# Altium integrated library TI_Logic_Flip-Flop,Latch,Register.IntLib: 2598 symbols (part 88 of 122)
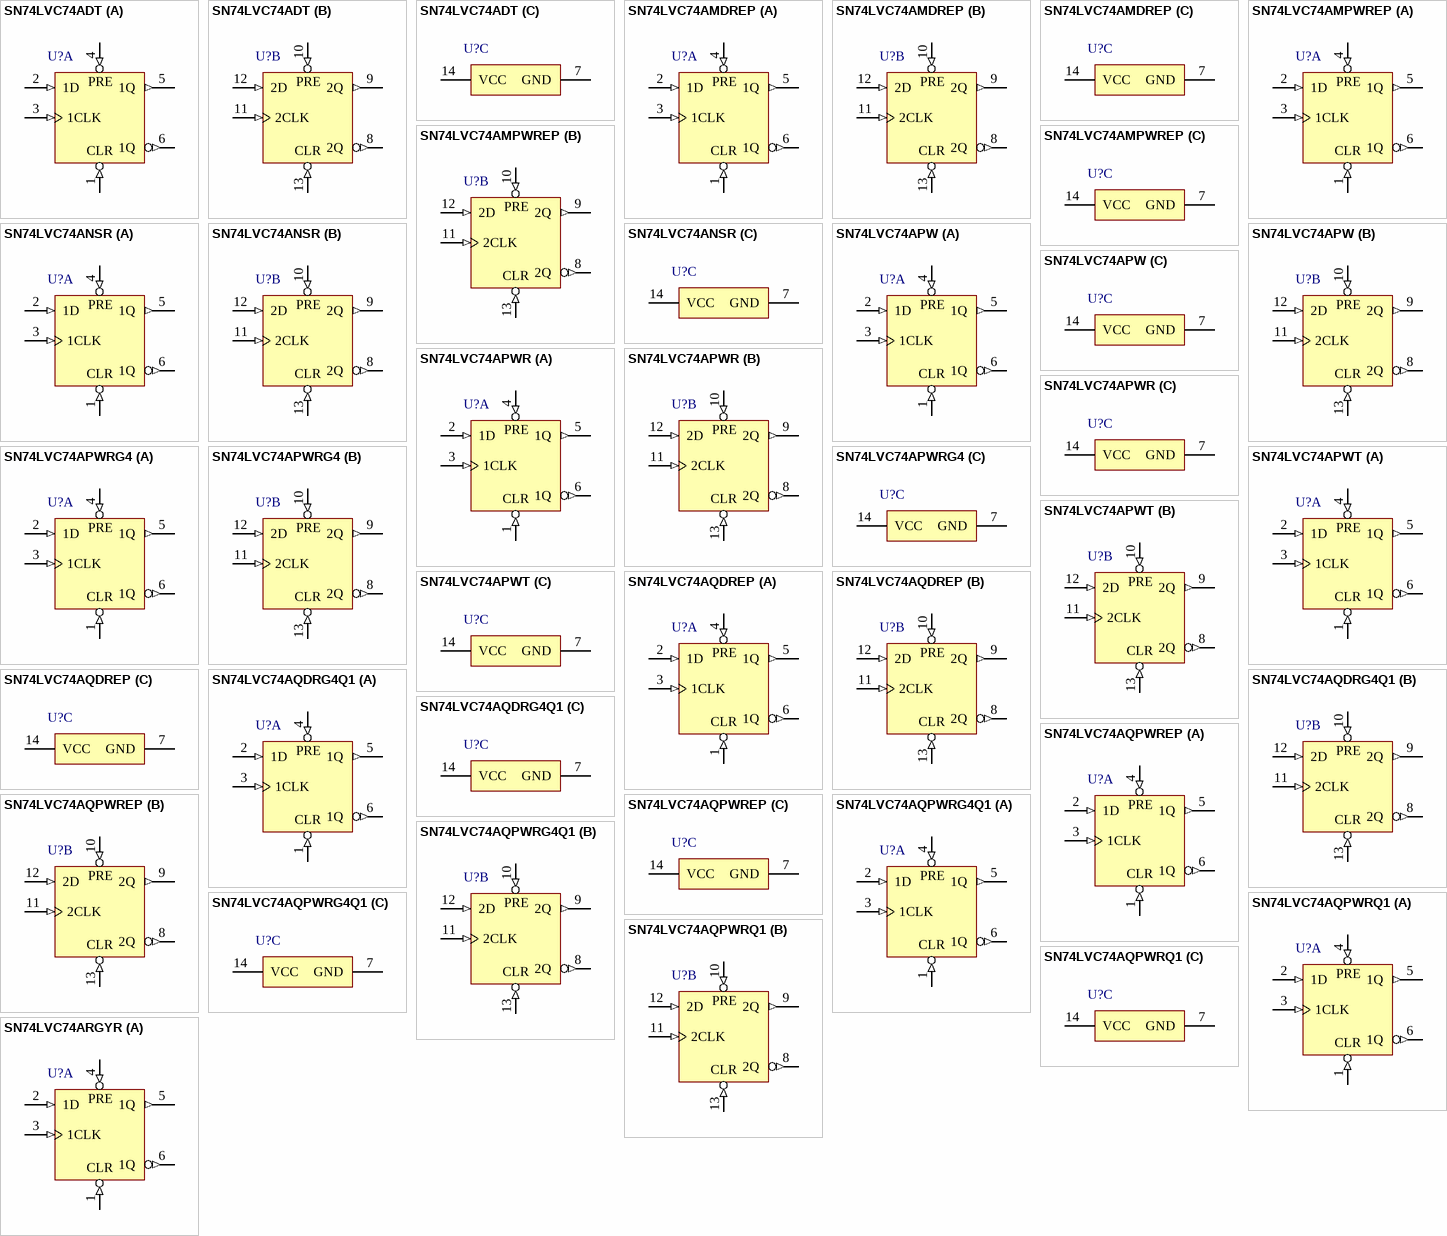
[diagram p226: symbols SN74LVC74ADT to SN74LVC74ARGYR]

## SN74LVC74AQDREP
designator U?
Enhanced Product Dual Positive-Edge-Triggered D-Type Flip-Flops With Clear And Preset, D0014A, LARGE T&R; Generic Part Number: SN74LVC74A-EP; Manufacturer: Texas Instruments; PartNumber: SN74LVC74AQDREP; VCC(Min)(V): 2; VCC(Max)(V): 3.6; Output Type: LVTTL; ICC @ Nom Voltage(Max)(mA): 0.01; Input Type: TTL,CMOS; F @ Nom Voltage(Max)(Mhz): 100; Rating: HiRel Enhanced Product; Technology Family: LVC; Voltage(Nom)(V): 2.7,3.3; Schmitt Trigger: No; Output Drive (IOL/IOH)(Max)(mA): 24/-24; tpd @ Nom Voltage(Max)(ns): 6,5.2; DatasheetVersion: SCAS751C; PackageReference: D0014A; Supplier 1: Digi-Key; Supplier Part Number 1: 296-22379-2-ND; Supplier 2: Digi-Key; Supplier Part Number 2: 296-22379-1-ND; Supplier 3: Digi-Key; Supplier Part Number 3: 296-22379-6-ND; Supplier 4: Newark; Supplier Part Number 4: 46M0704; Supplier 5: Mouser; Supplier Part Number 5: 595-SN74LVC74AQDREP; Bits(#): 2; Operating Temperature Range(C): -40 to 125,-55 to 125; Code_JEDEC: MS-012; ComponentLink1Description: Manufacturer URL; ComponentLink1URL: http://www.ti.com/; ComponentLink2Description: Datasheet; ComponentLink2URL: http://www.ti.com/lit/ds/symlink/sn74lvc74a-ep.pdf; ComponentLink3Description: Package Specification; ComponentLink3URL: http://www.ti.com/lit/ml/mpds177g/mpds177g.pdf
footprint D0014A_N (SOIC, 14-Leads, Body 8.75x4mm, Pitch 1.27mm, IPC Medium Density)
footprint D0014A_M (SOIC, 14-Leads, Body 8.75x4mm, Pitch 1.27mm, IPC Low Density)
footprint D0014A_L (SOIC, 14-Leads, Body 8.75x4mm, Pitch 1.27mm, IPC High Density)
part A pins: 1 1~{CLR} (in), 2 1D (in), 3 1CLK (in), 4 1~{PRE} (in), 5 1Q (out), 6 1Q (out)
part B pins: 8 2Q (out), 9 2Q (out), 10 2~{PRE} (in), 11 2CLK (in), 12 2D (in), 13 2~{CLR} (in)
part C pins: 7 GND (power), 14 VCC (power)
part A text: PRE; CLR
part B text: PRE; CLR

## SN74LVC74AQDRG4Q1
designator U?
Automotive Catalog Dual Positive-Edge-Triggered D-Type Flip-Flops With Clear And Preset, D0014A, LARGE T&R; Generic Part Number: SN74LVC74A-Q1; Manufacturer: Texas Instruments; PartNumber: SN74LVC74AQDRG4Q1; VCC(Min)(V): 2; VCC(Max)(V): 3.6; Output Type: LVTTL; ICC @ Nom Voltage(Max)(mA): 0.01; Input Type: TTL,CMOS; F @ Nom Voltage(Max)(Mhz): 100; Technology Family: LVC; Voltage(Nom)(V): 2.7,3.3; Schmitt Trigger: No; Output Drive (IOL/IOH)(Max)(mA): 24/-24; tpd @ Nom Voltage(Max)(ns): 6,5.2; DatasheetVersion: SCES481C; PackageReference: D0014A; Supplier 1: Digi-Key; Supplier Part Number 1: SN74LVC74AQDRG4Q1-ND; Supplier 2: Mouser; Supplier Part Number 2: 595-N74LVC74AQDRG4Q1; Bits(#): 2; Operating Temperature Range(C): -40 to 125; Rating: Automotive; 3-State Output: No; Code_JEDEC: MS-012; ComponentLink1Description: Manufacturer URL; ComponentLink1URL: http://www.ti.com/; ComponentLink2Description: Datasheet; ComponentLink2URL: http://www.ti.com/lit/ds/symlink/sn74lvc74a-q1.pdf; ComponentLink3Description: Package Specification; ComponentLink3URL: http://www.ti.com/lit/ml/mpds177g/mpds177g.pdf
footprint D0014A_N (SOIC, 14-Leads, Body 8.75x4mm, Pitch 1.27mm, IPC Medium Density)
footprint D0014A_M (SOIC, 14-Leads, Body 8.75x4mm, Pitch 1.27mm, IPC Low Density)
footprint D0014A_L (SOIC, 14-Leads, Body 8.75x4mm, Pitch 1.27mm, IPC High Density)
part A pins: 1 1~{CLR} (in), 2 1D (in), 3 1CLK (in), 4 1~{PRE} (in), 5 1Q (out), 6 1Q (out)
part B pins: 8 2Q (out), 9 2Q (out), 10 2~{PRE} (in), 11 2CLK (in), 12 2D (in), 13 2~{CLR} (in)
part C pins: 7 GND (power), 14 VCC (power)
part A text: PRE; CLR
part B text: PRE; CLR

## SN74LVC74AQPWREP
designator U?
Enhanced Product Dual Positive-Edge-Triggered D-Type Flip-Flops With Clear And Preset, PW0014A, LARGE T&R; Generic Part Number: SN74LVC74A-EP; Manufacturer: Texas Instruments; PartNumber: SN74LVC74AQPWREP; VCC(Min)(V): 2; VCC(Max)(V): 3.6; Output Type: LVTTL; ICC @ Nom Voltage(Max)(mA): 0.01; Input Type: TTL,CMOS; F @ Nom Voltage(Max)(Mhz): 100; Rating: HiRel Enhanced Product; Technology Family: LVC; Voltage(Nom)(V): 2.7,3.3; Schmitt Trigger: No; Output Drive (IOL/IOH)(Max)(mA): 24/-24; tpd @ Nom Voltage(Max)(ns): 6,5.2; DatasheetVersion: SCAS751C; PackageReference: PW0014A; Supplier 1: Digi-Key; Supplier Part Number 1: 296-22380-2-ND; Supplier 2: Digi-Key; Supplier Part Number 2: 296-22380-1-ND; Supplier 3: Digi-Key; Supplier Part Number 3: 296-22380-6-ND; Supplier 4: Mouser; Supplier Part Number 4: 595-SN74LVC74AQPWREP; Bits(#): 2; Operating Temperature Range(C): -40 to 125,-55 to 125; Code_JEDEC: MO-153; ComponentLink1Description: Manufacturer URL; ComponentLink1URL: http://www.ti.com/; ComponentLink2Description: Datasheet; ComponentLink2URL: http://www.ti.com/lit/ds/symlink/sn74lvc74a-ep.pdf; ComponentLink3Description: Package Specification; ComponentLink3URL: http://www.ti.com/lit/ml/mpds360/mpds360.pdf
footprint PW0014A_N (SOP, 14-Leads, Body 5.1x4.5mm, Pitch 0.65mm, IPC Medium Density)
footprint PW0014A_M (SOP, 14-Leads, Body 5.1x4.5mm, Pitch 0.65mm, IPC Low Density)
footprint PW0014A_L (SOP, 14-Leads, Body 5.1x4.5mm, Pitch 0.65mm, IPC High Density)
part A pins: 1 1~{CLR} (in), 2 1D (in), 3 1CLK (in), 4 1~{PRE} (in), 5 1Q (out), 6 1Q (out)
part B pins: 8 2Q (out), 9 2Q (out), 10 2~{PRE} (in), 11 2CLK (in), 12 2D (in), 13 2~{CLR} (in)
part C pins: 7 GND (power), 14 VCC (power)
part A text: PRE; CLR
part B text: PRE; CLR

## SN74LVC74AQPWRG4Q1
designator U?
Automotive Catalog Dual Positive-Edge-Triggered D-Type Flip-Flops With Clear And Preset, PW0014A, LARGE T&R; Generic Part Number: SN74LVC74A-Q1; Manufacturer: Texas Instruments; PartNumber: SN74LVC74AQPWRG4Q1; VCC(Min)(V): 2; VCC(Max)(V): 3.6; Output Type: LVTTL; ICC @ Nom Voltage(Max)(mA): 0.01; Input Type: TTL,CMOS; F @ Nom Voltage(Max)(Mhz): 100; Technology Family: LVC; Voltage(Nom)(V): 2.7,3.3; Schmitt Trigger: No; Output Drive (IOL/IOH)(Max)(mA): 24/-24; tpd @ Nom Voltage(Max)(ns): 6,5.2; DatasheetVersion: SCES481C; PackageReference: PW0014A; Supplier 1: Digi-Key; Supplier Part Number 1: 296-28971-2-ND; Supplier 2: Digi-Key; Supplier Part Number 2: 296-28971-1-ND; Supplier 3: Digi-Key; Supplier Part Number 3: 296-28971-6-ND; Supplier 4: Mouser; Supplier Part Number 4: 595-74LVC74AQPWRG4Q1; Bits(#): 2; Operating Temperature Range(C): -40 to 125; Rating: Automotive; 3-State Output: No; Code_JEDEC: MO-153; ComponentLink1Description: Manufacturer URL; ComponentLink1URL: http://www.ti.com/; ComponentLink2Description: Datasheet; ComponentLink2URL: http://www.ti.com/lit/ds/symlink/sn74lvc74a-q1.pdf; ComponentLink3Description: Package Specification; ComponentLink3URL: http://www.ti.com/lit/ml/mpds360/mpds360.pdf
footprint PW0014A_N (SOP, 14-Leads, Body 5.1x4.5mm, Pitch 0.65mm, IPC Medium Density)
footprint PW0014A_M (SOP, 14-Leads, Body 5.1x4.5mm, Pitch 0.65mm, IPC Low Density)
footprint PW0014A_L (SOP, 14-Leads, Body 5.1x4.5mm, Pitch 0.65mm, IPC High Density)
part A pins: 1 1~{CLR} (in), 2 1D (in), 3 1CLK (in), 4 1~{PRE} (in), 5 1Q (out), 6 1Q (out)
part B pins: 8 2Q (out), 9 2Q (out), 10 2~{PRE} (in), 11 2CLK (in), 12 2D (in), 13 2~{CLR} (in)
part C pins: 7 GND (power), 14 VCC (power)
part A text: PRE; CLR
part B text: PRE; CLR

## SN74LVC74AQPWRQ1
designator U?
Automotive Catalog Dual Positive-Edge-Triggered D-Type Flip-Flops With Clear And Preset, PW0014A, LARGE T&R; Generic Part Number: SN74LVC74A-Q1; Manufacturer: Texas Instruments; PartNumber: SN74LVC74AQPWRQ1; VCC(Min)(V): 2; VCC(Max)(V): 3.6; Output Type: LVTTL; ICC @ Nom Voltage(Max)(mA): 0.01; Input Type: TTL,CMOS; F @ Nom Voltage(Max)(Mhz): 100; Technology Family: LVC; Voltage(Nom)(V): 2.7,3.3; Schmitt Trigger: No; Output Drive (IOL/IOH)(Max)(mA): 24/-24; tpd @ Nom Voltage(Max)(ns): 6,5.2; DatasheetVersion: SCES481C; PackageReference: PW0014A; Supplier 1: Digi-Key; Supplier Part Number 1: 296-17492-2-ND; Supplier 2: Digi-Key; Supplier Part Number 2: 296-17492-1-ND; Supplier 3: Digi-Key; Supplier Part Number 3: 296-17492-6-ND; Supplier 4: Mouser; Supplier Part Number 4: 595-SN74LVC74AQPWRQ1; Bits(#): 2; Operating Temperature Range(C): -40 to 125; Rating: Automotive; 3-State Output: No; Code_JEDEC: MO-153; ComponentLink1Description: Manufacturer URL; ComponentLink1URL: http://www.ti.com/; ComponentLink2Description: Datasheet; ComponentLink2URL: http://www.ti.com/lit/ds/symlink/sn74lvc74a-q1.pdf; ComponentLink3Description: Package Specification; ComponentLink3URL: http://www.ti.com/lit/ml/mpds360/mpds360.pdf
footprint PW0014A_N (SOP, 14-Leads, Body 5.1x4.5mm, Pitch 0.65mm, IPC Medium Density)
footprint PW0014A_M (SOP, 14-Leads, Body 5.1x4.5mm, Pitch 0.65mm, IPC Low Density)
footprint PW0014A_L (SOP, 14-Leads, Body 5.1x4.5mm, Pitch 0.65mm, IPC High Density)
part A pins: 1 1~{CLR} (in), 2 1D (in), 3 1CLK (in), 4 1~{PRE} (in), 5 1Q (out), 6 1Q (out)
part B pins: 8 2Q (out), 9 2Q (out), 10 2~{PRE} (in), 11 2CLK (in), 12 2D (in), 13 2~{CLR} (in)
part C pins: 7 GND (power), 14 VCC (power)
part A text: PRE; CLR
part B text: PRE; CLR

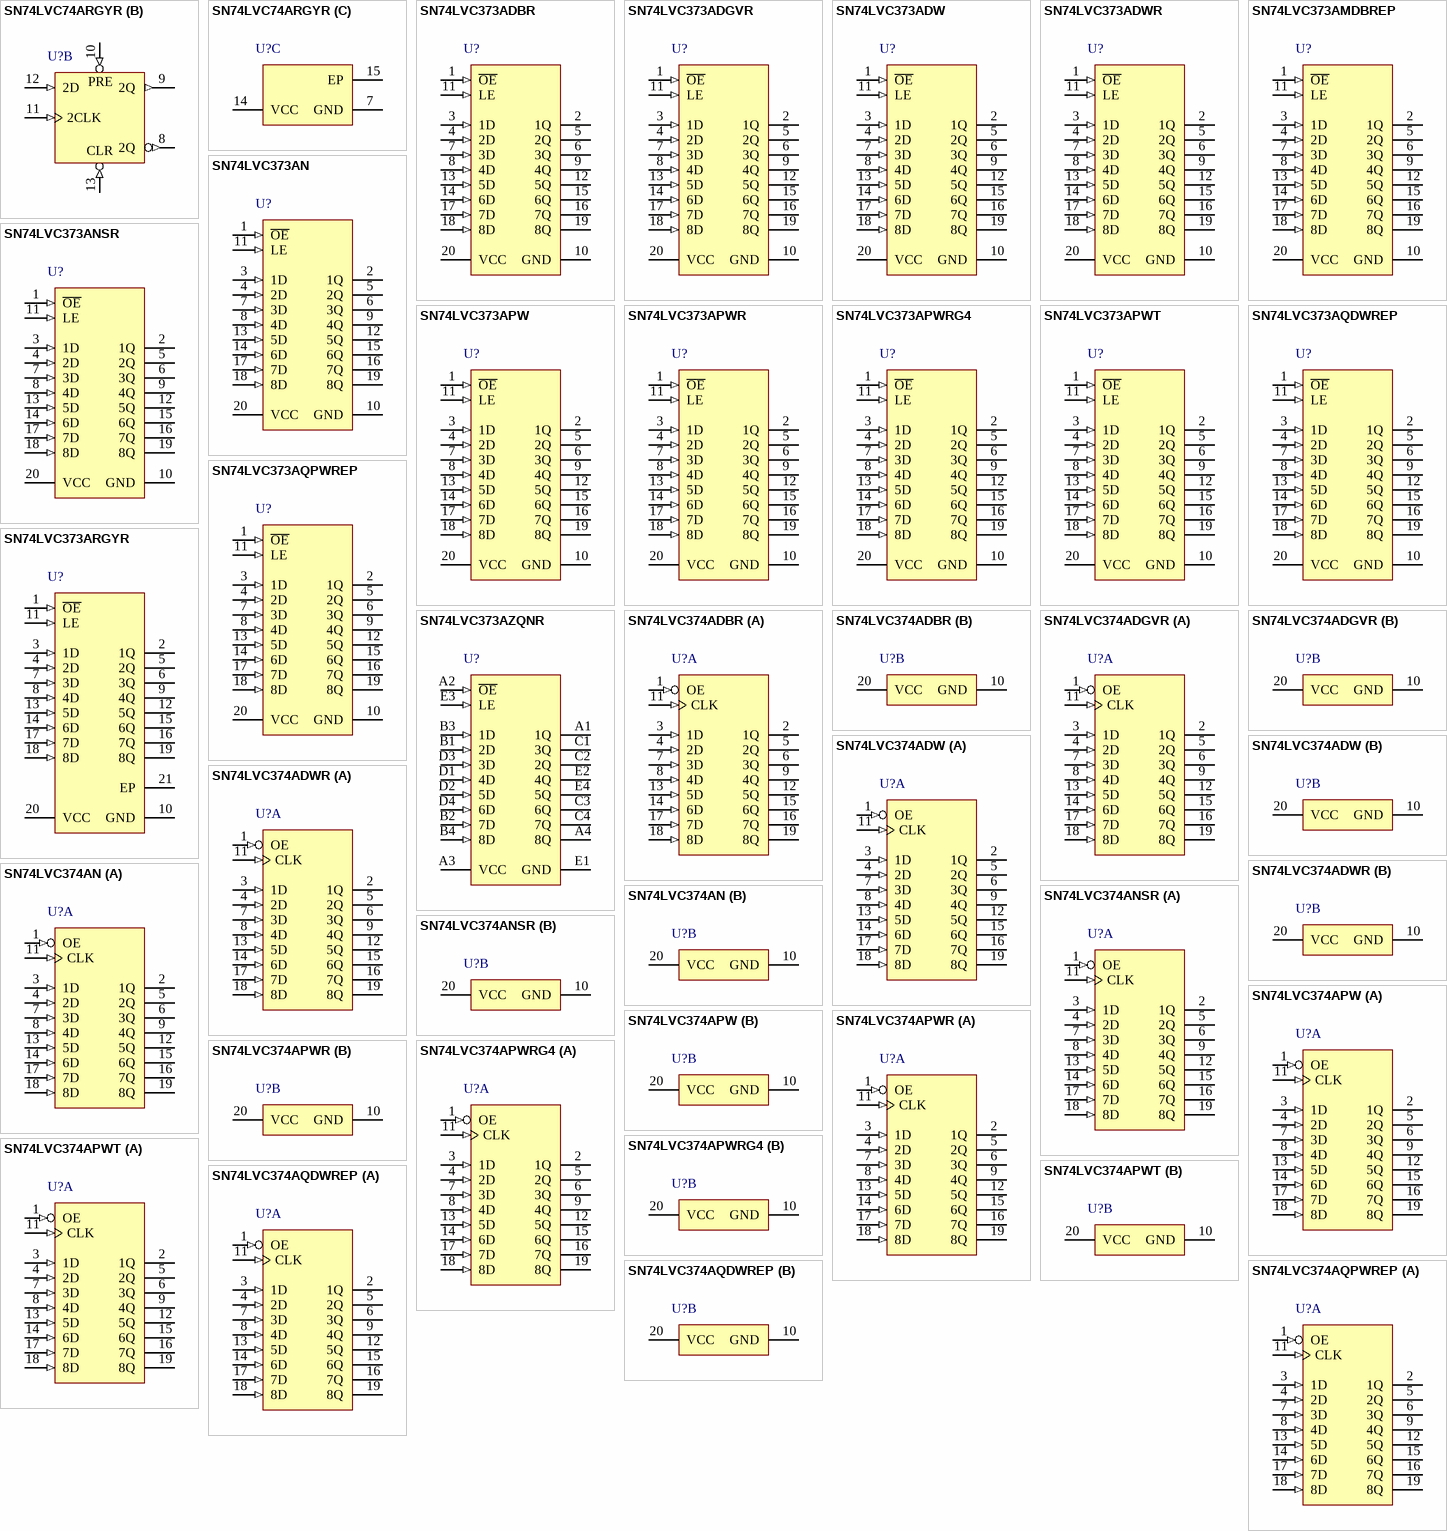
[diagram p104: symbols SN74LVC74ARGYR to SN74LVC374AQPWREP]

## SN74LVC74ARGYR
designator U?
Dual Positive-Edge-Triggered D-Type Flip-Flops With Clear And Preset, RGY0014A, LARGE T&R; Generic Part Number: SN74LVC74A; Manufacturer: Texas Instruments; PartNumber: SN74LVC74ARGYR; VCC(Min)(V): 1.65; VCC(Max)(V): 3.6; Output Type: CMOS; ICC @ Nom Voltage(Max)(mA): 0.01; Bits(#): 2; F @ Nom Voltage(Max)(Mhz): 100; Rating: Catalog; Technology Family: LVC; Voltage(Nom)(V): 1.8,2.5,2.7,3.3; Schmitt Trigger: No; Output Drive (IOL/IOH)(Max)(mA): 24/-24; Output Logic: Inverted,Non-inverted; tpd @ Nom Voltage(Max)(ns): 7.1,4.4,6,5.2; DatasheetVersion: SCAS287T; PackageReference: RGY0014A; Supplier 1: Digi-Key; Supplier Part Number 1: 296-13977-2-ND; Supplier 2: Digi-Key; Supplier Part Number 2: 296-13977-1-ND; Supplier 3: Digi-Key; Supplier Part Number 3: 296-13977-6-ND; Supplier 4: Newark; Supplier Part Number 4: 02E7038; Supplier 5: Mouser; Supplier Part Number 5: 595-SN74LVC74ARGYR; Input Type: CMOS; Operating Temperature Range(C): -40 to 125; 3-State Output: No; Code_JEDEC: MO-241; ComponentLink1Description: Manufacturer URL; ComponentLink1URL: http://www.ti.com/; ComponentLink2Description: Datasheet; ComponentLink2URL: http://www.ti.com/lit/ds/symlink/sn74lvc74a.pdf; ComponentLink3Description: Package Specification; ComponentLink3URL: http://www.ti.com/lit/ml/mpqf114g/mpqf114g.pdf
footprint RGY0014A_V (QFN, 14-Leads, Body 3.5x3.5mm, Thermal Pad 2.05x2.05mm, TI Recommend)
part A pins: 1 1~{CLR} (in), 2 1D (in), 3 1CLK (in), 4 1~{PRE} (in), 5 1Q (out), 6 1Q (out)
part B pins: 8 2Q (out), 9 2Q (out), 10 2~{PRE} (in), 11 2CLK (in), 12 2D (in), 13 2~{CLR} (in)
part C pins: 7 GND (power), 14 VCC (power) "Supply voltage input", 15 EP
part A text: PRE; CLR
part B text: PRE; CLR

## SN74LVC373ADBR
designator U?
Octal Transparent D-Type Latch With 3-State Outputs, DB0020A, LARGE T&R; Generic Part Number: SN74LVC373A; Manufacturer: Texas Instruments; PartNumber: SN74LVC373ADBR; VCC(Min)(V): 2; VCC(Max)(V): 3.6; Output Type: CMOS; Logic: True; Static Current: 0.01; Input Type: CMOS,TTL; Bits(#): 8; F @ Nom Voltage(Max)(Mhz): 100; Rating: Catalog; Technology Family: LVC; Voltage(Nom)(V): 1.8,2.5,2.7,3.3; Schmitt Trigger: No; Output Drive (IOL/IOH)(Max)(mA): 24/-24; Output Logic: Non-inverted; 3-State Output: Yes; tpd @ Nom Voltage(Max)(ns): 19.1,9.6,7.8,6.8; DatasheetVersion: SCAS295T; PackageReference: DB0020A; Supplier 1: Digi-Key; Supplier Part Number 1: 296-1237-2-ND; Supplier 2: Digi-Key; Supplier Part Number 2: 296-1237-1-ND; Supplier 3: Digi-Key; Supplier Part Number 3: 296-1237-6-ND; Supplier 4: Mouser; Supplier Part Number 4: 595-SN74LVC373ADBR; ICC @ Nom Voltage(Max)(mA): 0.01; Operating Temperature Range(C): -40 to 85; Code_JEDEC: MO-150; ComponentLink1Description: Manufacturer URL; ComponentLink1URL: http://www.ti.com/; ComponentLink2Description: Datasheet; ComponentLink2URL: http://www.ti.com/lit/ds/symlink/sn74lvc373a.pdf; ComponentLink3Description: Package Specification; ComponentLink3URL: http://www.ti.com/lit/ml/mpds508/mpds508.pdf
footprint DB0020A_N (SOP, 20-Leads, Body 5.6x7.5mm, Pitch 0.65mm, IPC Medium Density)
footprint DB0020A_M (SOP, 20-Leads, Body 5.6x7.5mm, Pitch 0.65mm, IPC Low Density)
footprint DB0020A_L (SOP, 20-Leads, Body 5.6x7.5mm, Pitch 0.65mm, IPC High Density)
pins: 1 ~{OE} (in) "Output Enable", 2 1Q (hiz) "1Q Output", 3 1D (in) "1D Input", 4 2D (in) "2D Input", 5 2Q (hiz) "2Q Output", 6 3Q (hiz) "3Q Output", 7 3D (in) "3D Input", 8 4D (in) "4D Input", 9 4Q (hiz) "4Q Output", 10 GND (power) "Ground Pin", 11 LE (in) "Latch Enable", 12 5Q (hiz) "5Q Output", 13 5D (in) "5D Input", 14 6D (in) "6D Input", 15 6Q (hiz) "6Q Output", 16 7Q (hiz) "7Q Output", 17 7D (in) "7D Input", 18 8D (in) "8D Input", 19 8Q (hiz) "8Q Output", 20 VCC (power) "Power Pin"

## SN74LVC373ADGVR
designator U?
Octal Transparent D-Type Latch With 3-State Outputs, DGV0020A, LARGE T&R; Generic Part Number: SN74LVC373A; Manufacturer: Texas Instruments; PartNumber: SN74LVC373ADGVR; VCC(Min)(V): 2; VCC(Max)(V): 3.6; Output Type: CMOS; Logic: True; Static Current: 0.01; Input Type: CMOS,TTL; Bits(#): 8; F @ Nom Voltage(Max)(Mhz): 100; Rating: Catalog; Technology Family: LVC; Voltage(Nom)(V): 1.8,2.5,2.7,3.3; Schmitt Trigger: No; Output Drive (IOL/IOH)(Max)(mA): 24/-24; Output Logic: Non-inverted; 3-State Output: Yes; tpd @ Nom Voltage(Max)(ns): 19.1,9.6,7.8,6.8; DatasheetVersion: SCAS295T; PackageReference: DGV0020A; Supplier 1: Digi-Key; Supplier Part Number 1: 296-8510-2-ND; Supplier 2: Digi-Key; Supplier Part Number 2: 296-8510-1-ND; Supplier 3: Digi-Key; Supplier Part Number 3: 296-8510-6-ND; Supplier 4: Newark; Supplier Part Number 4: 76C4276; Supplier 5: Mouser; Supplier Part Number 5: 595-SN74LVC373ADGVR; ICC @ Nom Voltage(Max)(mA): 0.01; Operating Temperature Range(C): -40 to 85; Code_JEDEC: MO-194; ComponentLink1Description: Manufacturer URL; ComponentLink1URL: http://www.ti.com/; ComponentLink2Description: Datasheet; ComponentLink2URL: http://www.ti.com/lit/ds/symlink/sn74lvc373a.pdf; ComponentLink3Description: Package Specification; ComponentLink3URL: http://www.ti.com/lit/ml/mpds006c/mpds006c.pdf
footprint DGV0020A_N (SOP, 20-Leads, Body 4.5x5.1mm, Pitch 0.4mm, IPC Medium Density)
footprint DGV0020A_M (SOP, 20-Leads, Body 4.5x5.1mm, Pitch 0.4mm, IPC Low Density)
footprint DGV0020A_L (SOP, 20-Leads, Body 4.5x5.1mm, Pitch 0.4mm, IPC High Density)
pins: 1 ~{OE} (in) "Output Enable", 2 1Q (hiz) "1Q Output", 3 1D (in) "1D Input", 4 2D (in) "2D Input", 5 2Q (hiz) "2Q Output", 6 3Q (hiz) "3Q Output", 7 3D (in) "3D Input", 8 4D (in) "4D Input", 9 4Q (hiz) "4Q Output", 10 GND (power) "Ground Pin", 11 LE (in) "Latch Enable", 12 5Q (hiz) "5Q Output", 13 5D (in) "5D Input", 14 6D (in) "6D Input", 15 6Q (hiz) "6Q Output", 16 7Q (hiz) "7Q Output", 17 7D (in) "7D Input", 18 8D (in) "8D Input", 19 8Q (hiz) "8Q Output", 20 VCC (power) "Power Pin"

## SN74LVC373ADW
designator U?
Octal Transparent D-Type Latch With 3-State Outputs, DW0020A, TUBE; Generic Part Number: SN74LVC373A; Manufacturer: Texas Instruments; PartNumber: SN74LVC373ADW; VCC(Min)(V): 2; VCC(Max)(V): 3.6; Output Type: CMOS; Logic: True; Static Current: 0.01; Input Type: CMOS,TTL; Bits(#): 8; F @ Nom Voltage(Max)(Mhz): 100; Rating: Catalog; Technology Family: LVC; Voltage(Nom)(V): 1.8,2.5,2.7,3.3; Schmitt Trigger: No; Output Drive (IOL/IOH)(Max)(mA): 24/-24; Output Logic: Non-inverted; 3-State Output: Yes; tpd @ Nom Voltage(Max)(ns): 19.1,9.6,7.8,6.8; DatasheetVersion: SCAS295T; PackageReference: DW0020A; Supplier 1: Digi-Key; Supplier Part Number 1: 296-8511-5-ND; Supplier 2: Farnell; Supplier Part Number 2: 1105932; Supplier 3: Newark; Supplier Part Number 3: 24M7599; Supplier 4: Mouser; Supplier Part Number 4: 595-SN74LVC373ADW; ICC @ Nom Voltage(Max)(mA): 0.01; Operating Temperature Range(C): -40 to 85; Code_JEDEC: MS-013; ComponentLink1Description: Manufacturer URL; ComponentLink1URL: http://www.ti.com/; ComponentLink2Description: Datasheet; ComponentLink2URL: http://www.ti.com/lit/ds/symlink/sn74lvc373a.pdf; ComponentLink3Description: Package Specification; ComponentLink3URL: http://www.ti.com/lit/ml/mpds173a/mpds173a.pdf
footprint DW0020A_N (SOIC, 20-Leads, Body 13x7.6mm, Pitch 1.27mm, IPC Medium Density)
footprint DW0020A_M (SOIC, 20-Leads, Body 13x7.6mm, Pitch 1.27mm, IPC Low Density)
footprint DW0020A_L (SOIC, 20-Leads, Body 13x7.6mm, Pitch 1.27mm, IPC High Density)
pins: 1 ~{OE} (in) "Output Enable", 2 1Q (hiz) "1Q Output", 3 1D (in) "1D Input", 4 2D (in) "2D Input", 5 2Q (hiz) "2Q Output", 6 3Q (hiz) "3Q Output", 7 3D (in) "3D Input", 8 4D (in) "4D Input", 9 4Q (hiz) "4Q Output", 10 GND (power) "Ground Pin", 11 LE (in) "Latch Enable", 12 5Q (hiz) "5Q Output", 13 5D (in) "5D Input", 14 6D (in) "6D Input", 15 6Q (hiz) "6Q Output", 16 7Q (hiz) "7Q Output", 17 7D (in) "7D Input", 18 8D (in) "8D Input", 19 8Q (hiz) "8Q Output", 20 VCC (power) "Power Pin"

## SN74LVC373ADWR
designator U?
Octal Transparent D-Type Latch With 3-State Outputs, DW0020A, LARGE T&R; Generic Part Number: SN74LVC373A; Manufacturer: Texas Instruments; PartNumber: SN74LVC373ADWR; VCC(Min)(V): 2; VCC(Max)(V): 3.6; Output Type: CMOS; Logic: True; Static Current: 0.01; Input Type: CMOS,TTL; Bits(#): 8; F @ Nom Voltage(Max)(Mhz): 100; Rating: Catalog; Technology Family: LVC; Voltage(Nom)(V): 1.8,2.5,2.7,3.3; Schmitt Trigger: No; Output Drive (IOL/IOH)(Max)(mA): 24/-24; Output Logic: Non-inverted; 3-State Output: Yes; tpd @ Nom Voltage(Max)(ns): 19.1,9.6,7.8,6.8; DatasheetVersion: SCAS295T; PackageReference: DW0020A; Supplier 1: Digi-Key; Supplier Part Number 1: 296-8511-2-ND; Supplier 2: Digi-Key; Supplier Part Number 2: 296-8511-1-ND; Supplier 3: Digi-Key; Supplier Part Number 3: 296-8511-6-ND; Supplier 4: Newark; Supplier Part Number 4: 76C4277; Supplier 5: Mouser; Supplier Part Number 5: 595-SN74LVC373ADWR; ICC @ Nom Voltage(Max)(mA): 0.01; Operating Temperature Range(C): -40 to 85; Code_JEDEC: MS-013; ComponentLink1Description: Manufacturer URL; ComponentLink1URL: http://www.ti.com/; ComponentLink2Description: Datasheet; ComponentLink2URL: http://www.ti.com/lit/ds/symlink/sn74lvc373a.pdf; ComponentLink3Description: Package Specification; ComponentLink3URL: http://www.ti.com/lit/ml/mpds173a/mpds173a.pdf
footprint DW0020A_N (SOIC, 20-Leads, Body 13x7.6mm, Pitch 1.27mm, IPC Medium Density)
footprint DW0020A_M (SOIC, 20-Leads, Body 13x7.6mm, Pitch 1.27mm, IPC Low Density)
footprint DW0020A_L (SOIC, 20-Leads, Body 13x7.6mm, Pitch 1.27mm, IPC High Density)
pins: 1 ~{OE} (in) "Output Enable", 2 1Q (hiz) "1Q Output", 3 1D (in) "1D Input", 4 2D (in) "2D Input", 5 2Q (hiz) "2Q Output", 6 3Q (hiz) "3Q Output", 7 3D (in) "3D Input", 8 4D (in) "4D Input", 9 4Q (hiz) "4Q Output", 10 GND (power) "Ground Pin", 11 LE (in) "Latch Enable", 12 5Q (hiz) "5Q Output", 13 5D (in) "5D Input", 14 6D (in) "6D Input", 15 6Q (hiz) "6Q Output", 16 7Q (hiz) "7Q Output", 17 7D (in) "7D Input", 18 8D (in) "8D Input", 19 8Q (hiz) "8Q Output", 20 VCC (power) "Power Pin"

## SN74LVC373AMDBREP
designator U?
Enhanced Product Octal Transparent D-Type Latch With 3-State Outputs, DB0020A, LARGE T&R; Generic Part Number: SN74LVC373A-EP; Manufacturer: Texas Instruments; PartNumber: SN74LVC373AMDBREP; VCC(Min)(V): 2; VCC(Max)(V): 3.6; Output Type: CMOS; Logic: True; Static Current: 0.01; Input Type: CMOS,TTL; Bits(#): 8; F @ Nom Voltage(Max)(Mhz): 100; Rating: HiRel Enhanced Product; Technology Family: LVC; Voltage(Nom)(V): 2.7,3.3; Schmitt Trigger: No; Output Drive (IOL/IOH)(Max)(mA): 24/-24; Output Logic: Non-inverted; 3-State Output: Yes; tpd @ Nom Voltage(Max)(ns): 8.5,7.5; DatasheetVersion: SCAS737C; PackageReference: DB0020A; Supplier 1: Digi-Key; Supplier Part Number 1: 296-22364-2-ND; Supplier 2: Digi-Key; Supplier Part Number 2: 296-22364-1-ND; Supplier 3: Digi-Key; Supplier Part Number 3: 296-22364-6-ND; Supplier 4: Mouser; Supplier Part Number 4: 595-N74LVC373AMDBREP; ICC @ Nom Voltage(Max)(mA): 0.01; Operating Temperature Range(C): -40 to 125,-55 to 125; Code_JEDEC: MO-150; ComponentLink1Description: Manufacturer URL; ComponentLink1URL: http://www.ti.com/; ComponentLink2Description: Datasheet; ComponentLink2URL: http://www.ti.com/lit/ds/symlink/sn74lvc373a-ep.pdf; ComponentLink3Description: Package Specification; ComponentLink3URL: http://www.ti.com/lit/ml/mpds508/mpds508.pdf
footprint DB0020A_N (SOP, 20-Leads, Body 5.6x7.5mm, Pitch 0.65mm, IPC Medium Density)
footprint DB0020A_M (SOP, 20-Leads, Body 5.6x7.5mm, Pitch 0.65mm, IPC Low Density)
footprint DB0020A_L (SOP, 20-Leads, Body 5.6x7.5mm, Pitch 0.65mm, IPC High Density)
pins: 1 ~{OE} (in) "Output Enable", 2 1Q (hiz) "1Q Output", 3 1D (in) "1D Input", 4 2D (in) "2D Input", 5 2Q (hiz) "2Q Output", 6 3Q (hiz) "3Q Output", 7 3D (in) "3D Input", 8 4D (in) "4D Input", 9 4Q (hiz) "4Q Output", 10 GND (power) "Ground Pin", 11 LE (in) "Latch Enable", 12 5Q (hiz) "5Q Output", 13 5D (in) "5D Input", 14 6D (in) "6D Input", 15 6Q (hiz) "6Q Output", 16 7Q (hiz) "7Q Output", 17 7D (in) "7D Input", 18 8D (in) "8D Input", 19 8Q (hiz) "8Q Output", 20 VCC (power) "Power Pin"

## SN74LVC373AN
designator U?
Octal Transparent D-Type Latch With 3-State Outputs, N0020A, TUBE; Generic Part Number: SN74LVC373A; Manufacturer: Texas Instruments; PartNumber: SN74LVC373AN; VCC(Min)(V): 2; VCC(Max)(V): 3.6; Output Type: CMOS; Logic: True; Static Current: 0.01; Input Type: CMOS,TTL; Bits(#): 8; F @ Nom Voltage(Max)(Mhz): 100; Rating: Catalog; Technology Family: LVC; Voltage(Nom)(V): 1.8,2.5,2.7,3.3; Schmitt Trigger: No; Output Drive (IOL/IOH)(Max)(mA): 24/-24; Output Logic: Non-inverted; 3-State Output: Yes; tpd @ Nom Voltage(Max)(ns): 19.1,9.6,7.8,6.8; DatasheetVersion: SCAS295T; PackageReference: N0020A; Supplier 1: Digi-Key; Supplier Part Number 1: 296-12905-5-ND; Supplier 2: Mouser; Supplier Part Number 2: 595-SN74LVC373AN; ICC @ Nom Voltage(Max)(mA): 0.01; Operating Temperature Range(C): -40 to 85; Code_JEDEC: MS-001; ComponentLink1Description: Manufacturer URL; ComponentLink1URL: http://www.ti.com/; ComponentLink2Description: Datasheet; ComponentLink2URL: http://www.ti.com/lit/ds/symlink/sn74lvc373a.pdf; ComponentLink3Description: Package Specification; ComponentLink3URL: http://www.ti.com/lit/ml/mpdi002c/mpdi002c.pdf
footprint N0020A (DIP, 20-Leads, Body 26.9x6.6mm, Pitch 2.54mm)
pins: 1 ~{OE} (in) "Output Enable", 2 1Q (hiz) "1Q Output", 3 1D (in) "1D Input", 4 2D (in) "2D Input", 5 2Q (hiz) "2Q Output", 6 3Q (hiz) "3Q Output", 7 3D (in) "3D Input", 8 4D (in) "4D Input", 9 4Q (hiz) "4Q Output", 10 GND (power) "Ground Pin", 11 LE (in) "Latch Enable", 12 5Q (hiz) "5Q Output", 13 5D (in) "5D Input", 14 6D (in) "6D Input", 15 6Q (hiz) "6Q Output", 16 7Q (hiz) "7Q Output", 17 7D (in) "7D Input", 18 8D (in) "8D Input", 19 8Q (hiz) "8Q Output", 20 VCC (power) "Power Pin"

## SN74LVC373ANSR
designator U?
Octal Transparent D-Type Latch With 3-State Outputs, NS0020A, LARGE T&R; Generic Part Number: SN74LVC373A; Manufacturer: Texas Instruments; PartNumber: SN74LVC373ANSR; VCC(Min)(V): 2; VCC(Max)(V): 3.6; Output Type: CMOS; Logic: True; Static Current: 0.01; Input Type: CMOS,TTL; Bits(#): 8; F @ Nom Voltage(Max)(Mhz): 100; Rating: Catalog; Technology Family: LVC; Voltage(Nom)(V): 1.8,2.5,2.7,3.3; Schmitt Trigger: No; Output Drive (IOL/IOH)(Max)(mA): 24/-24; Output Logic: Non-inverted; 3-State Output: Yes; tpd @ Nom Voltage(Max)(ns): 19.1,9.6,7.8,6.8; DatasheetVersion: SCAS295T; PackageReference: NS0020A; Supplier 1: Digi-Key; Supplier Part Number 1: 296-29144-2-ND; Supplier 2: Digi-Key; Supplier Part Number 2: 296-29144-1-ND; Supplier 3: Digi-Key; Supplier Part Number 3: 296-29144-6-ND; Supplier 4: Mouser; Supplier Part Number 4: 595-SN74LVC373ANSR; ICC @ Nom Voltage(Max)(mA): 0.01; Operating Temperature Range(C): -40 to 85; ComponentLink1Description: Manufacturer URL; ComponentLink1URL: http://www.ti.com/; ComponentLink2Description: Datasheet; ComponentLink2URL: http://www.ti.com/lit/ds/symlink/sn74lvc373a.pdf; ComponentLink3Description: Package Specification; ComponentLink3URL: http://www.ti.com/lit/ml/msop002a/msop002a.pdf
footprint NS0020A_N (SOIC,20-Leads,Body 12.9x5.6mm,Pitch 1.27mm,IPC Medium Density)
footprint NS0020A_M (SOIC,20-Leads,Body 12.9x5.6mm,Pitch 1.27mm,IPC Low Density)
footprint NS0020A_L (SOIC,20-Leads,Body 12.9x5.6mm,Pitch 1.27mm,IPC High Density)
pins: 1 ~{OE} (in) "Output Enable", 2 1Q (hiz) "1Q Output", 3 1D (in) "1D Input", 4 2D (in) "2D Input", 5 2Q (hiz) "2Q Output", 6 3Q (hiz) "3Q Output", 7 3D (in) "3D Input", 8 4D (in) "4D Input", 9 4Q (hiz) "4Q Output", 10 GND (power) "Ground Pin", 11 LE (in) "Latch Enable", 12 5Q (hiz) "5Q Output", 13 5D (in) "5D Input", 14 6D (in) "6D Input", 15 6Q (hiz) "6Q Output", 16 7Q (hiz) "7Q Output", 17 7D (in) "7D Input", 18 8D (in) "8D Input", 19 8Q (hiz) "8Q Output", 20 VCC (power) "Power Pin"

## SN74LVC373APW
designator U?
Octal Transparent D-Type Latch With 3-State Outputs, PW0020A, TUBE; Generic Part Number: SN74LVC373A; Manufacturer: Texas Instruments; PartNumber: SN74LVC373APW; VCC(Min)(V): 2; VCC(Max)(V): 3.6; Output Type: CMOS; Logic: True; Static Current: 0.01; Input Type: CMOS,TTL; Bits(#): 8; F @ Nom Voltage(Max)(Mhz): 100; Rating: Catalog; Technology Family: LVC; Voltage(Nom)(V): 1.8,2.5,2.7,3.3; Schmitt Trigger: No; Output Drive (IOL/IOH)(Max)(mA): 24/-24; Output Logic: Non-inverted; 3-State Output: Yes; tpd @ Nom Voltage(Max)(ns): 19.1,9.6,7.8,6.8; DatasheetVersion: SCAS295T; PackageReference: PW0020A; Supplier 1: Digi-Key; Supplier Part Number 1: 296-26626-5-ND; Supplier 2: Farnell; Supplier Part Number 2: 1236387; Supplier 3: Newark; Supplier Part Number 3: 13M5310; Supplier 4: Mouser; Supplier Part Number 4: 595-SN74LVC373APW; ICC @ Nom Voltage(Max)(mA): 0.01; Operating Temperature Range(C): -40 to 85; Code_JEDEC: MO-153; ComponentLink1Description: Manufacturer URL; ComponentLink1URL: http://www.ti.com/; ComponentLink2Description: Datasheet; ComponentLink2URL: http://www.ti.com/lit/ds/symlink/sn74lvc373a.pdf; ComponentLink3Description: Package Specification; ComponentLink3URL: http://www.ti.com/lit/ml/mpds362/mpds362.pdf
footprint PW0020A_N (SOP, 20-Leads, Body 6.6x4.5mm, Pitch 0.65mm, IPC Medium Density)
footprint PW0020A_M (SOP, 20-Leads, Body 6.6x4.5mm, Pitch 0.65mm, IPC Low Density)
footprint PW0020A_L (SOP, 20-Leads, Body 6.6x4.5mm, Pitch 0.65mm, IPC High Density)
pins: 1 ~{OE} (in) "Output Enable", 2 1Q (hiz) "1Q Output", 3 1D (in) "1D Input", 4 2D (in) "2D Input", 5 2Q (hiz) "2Q Output", 6 3Q (hiz) "3Q Output", 7 3D (in) "3D Input", 8 4D (in) "4D Input", 9 4Q (hiz) "4Q Output", 10 GND (power) "Ground Pin", 11 LE (in) "Latch Enable", 12 5Q (hiz) "5Q Output", 13 5D (in) "5D Input", 14 6D (in) "6D Input", 15 6Q (hiz) "6Q Output", 16 7Q (hiz) "7Q Output", 17 7D (in) "7D Input", 18 8D (in) "8D Input", 19 8Q (hiz) "8Q Output", 20 VCC (power) "Power Pin"

## SN74LVC373APWR
designator U?
Octal Transparent D-Type Latch With 3-State Outputs, PW0020A, LARGE T&R; Generic Part Number: SN74LVC373A; Manufacturer: Texas Instruments; PartNumber: SN74LVC373APWR; VCC(Min)(V): 2; VCC(Max)(V): 3.6; Output Type: CMOS; Logic: True; Static Current: 0.01; Input Type: CMOS,TTL; Bits(#): 8; F @ Nom Voltage(Max)(Mhz): 100; Rating: Catalog; Technology Family: LVC; Voltage(Nom)(V): 1.8,2.5,2.7,3.3; Schmitt Trigger: No; Output Drive (IOL/IOH)(Max)(mA): 24/-24; Output Logic: Non-inverted; 3-State Output: Yes; tpd @ Nom Voltage(Max)(ns): 19.1,9.6,7.8,6.8; DatasheetVersion: SCAS295T; PackageReference: PW0020A; Supplier 1: Digi-Key; Supplier Part Number 1: 296-8512-2-ND; Supplier 2: Digi-Key; Supplier Part Number 2: 296-8512-1-ND; Supplier 3: Digi-Key; Supplier Part Number 3: 296-8512-6-ND; Supplier 4: Farnell; Supplier Part Number 4: 1102984; Supplier 5: Farnell; Supplier Part Number 5: 1102984RL; Supplier 6: Farnell; Supplier Part Number 6: 2437255; Supplier 7: Newark; Supplier Part Number 7: 94T5067; Supplier 8: Newark; Supplier Part Number 8: 76C4281; Supplier 9: Mouser; Supplier Part Number 9: 595-SN74LVC373APWR; ICC @ Nom Voltage(Max)(mA): 0.01; Operating Temperature Range(C): -40 to 85; Code_JEDEC: MO-153; ComponentLink1Description: Manufacturer URL; ComponentLink1URL: http://www.ti.com/; ComponentLink2Description: Datasheet; ComponentLink2URL: http://www.ti.com/lit/ds/symlink/sn74lvc373a.pdf; ComponentLink3Description: Package Specification; ComponentLink3URL: http://www.ti.com/lit/ml/mpds362/mpds362.pdf
footprint PW0020A_N (SOP, 20-Leads, Body 6.6x4.5mm, Pitch 0.65mm, IPC Medium Density)
footprint PW0020A_M (SOP, 20-Leads, Body 6.6x4.5mm, Pitch 0.65mm, IPC Low Density)
footprint PW0020A_L (SOP, 20-Leads, Body 6.6x4.5mm, Pitch 0.65mm, IPC High Density)
pins: 1 ~{OE} (in) "Output Enable", 2 1Q (hiz) "1Q Output", 3 1D (in) "1D Input", 4 2D (in) "2D Input", 5 2Q (hiz) "2Q Output", 6 3Q (hiz) "3Q Output", 7 3D (in) "3D Input", 8 4D (in) "4D Input", 9 4Q (hiz) "4Q Output", 10 GND (power) "Ground Pin", 11 LE (in) "Latch Enable", 12 5Q (hiz) "5Q Output", 13 5D (in) "5D Input", 14 6D (in) "6D Input", 15 6Q (hiz) "6Q Output", 16 7Q (hiz) "7Q Output", 17 7D (in) "7D Input", 18 8D (in) "8D Input", 19 8Q (hiz) "8Q Output", 20 VCC (power) "Power Pin"

## SN74LVC373APWRG4
designator U?
Octal Transparent D-Type Latch With 3-State Outputs, PW0020A, LARGE T&R; Generic Part Number: SN74LVC373A; Manufacturer: Texas Instruments; PartNumber: SN74LVC373APWRG4; VCC(Min)(V): 2; VCC(Max)(V): 3.6; Output Type: CMOS; Logic: True; Static Current: 0.01; Input Type: CMOS,TTL; Bits(#): 8; F @ Nom Voltage(Max)(Mhz): 100; Rating: Catalog; Technology Family: LVC; Voltage(Nom)(V): 1.8,2.5,2.7,3.3; Schmitt Trigger: No; Output Drive (IOL/IOH)(Max)(mA): 24/-24; Output Logic: Non-inverted; 3-State Output: Yes; tpd @ Nom Voltage(Max)(ns): 19.1,9.6,7.8,6.8; DatasheetVersion: SCAS295T; PackageReference: PW0020A; Supplier 1: Digi-Key; Supplier Part Number 1: SN74LVC373APWRG4-ND; Supplier 2: Newark; Supplier Part Number 2: 40K9289; Supplier 3: Mouser; Supplier Part Number 3: 595-SN74LVC373APWRG4; ICC @ Nom Voltage(Max)(mA): 0.01; Operating Temperature Range(C): -40 to 85; Code_JEDEC: MO-153; ComponentLink1Description: Manufacturer URL; ComponentLink1URL: http://www.ti.com/; ComponentLink2Description: Datasheet; ComponentLink2URL: http://www.ti.com/lit/ds/symlink/sn74lvc373a.pdf; ComponentLink3Description: Package Specification; ComponentLink3URL: http://www.ti.com/lit/ml/mpds362/mpds362.pdf
footprint PW0020A_N (SOP, 20-Leads, Body 6.6x4.5mm, Pitch 0.65mm, IPC Medium Density)
footprint PW0020A_M (SOP, 20-Leads, Body 6.6x4.5mm, Pitch 0.65mm, IPC Low Density)
footprint PW0020A_L (SOP, 20-Leads, Body 6.6x4.5mm, Pitch 0.65mm, IPC High Density)
pins: 1 ~{OE} (in) "Output Enable", 2 1Q (hiz) "1Q Output", 3 1D (in) "1D Input", 4 2D (in) "2D Input", 5 2Q (hiz) "2Q Output", 6 3Q (hiz) "3Q Output", 7 3D (in) "3D Input", 8 4D (in) "4D Input", 9 4Q (hiz) "4Q Output", 10 GND (power) "Ground Pin", 11 LE (in) "Latch Enable", 12 5Q (hiz) "5Q Output", 13 5D (in) "5D Input", 14 6D (in) "6D Input", 15 6Q (hiz) "6Q Output", 16 7Q (hiz) "7Q Output", 17 7D (in) "7D Input", 18 8D (in) "8D Input", 19 8Q (hiz) "8Q Output", 20 VCC (power) "Power Pin"

## SN74LVC373APWT
designator U?
Octal Transparent D-Type Latch With 3-State Outputs, PW0020A, SMALL T&R; Generic Part Number: SN74LVC373A; Manufacturer: Texas Instruments; PartNumber: SN74LVC373APWT; VCC(Min)(V): 2; VCC(Max)(V): 3.6; Output Type: CMOS; Logic: True; Static Current: 0.01; Input Type: CMOS,TTL; Bits(#): 8; F @ Nom Voltage(Max)(Mhz): 100; Rating: Catalog; Technology Family: LVC; Voltage(Nom)(V): 1.8,2.5,2.7,3.3; Schmitt Trigger: No; Output Drive (IOL/IOH)(Max)(mA): 24/-24; Output Logic: Non-inverted; 3-State Output: Yes; tpd @ Nom Voltage(Max)(ns): 19.1,9.6,7.8,6.8; DatasheetVersion: SCAS295T; PackageReference: PW0020A; Supplier 1: Digi-Key; Supplier Part Number 1: SN74LVC373APWT-ND; Supplier 2: Farnell; Supplier Part Number 2: 1741601; Supplier 3: Newark; Supplier Part Number 3: 73H4521; Supplier 4: Mouser; Supplier Part Number 4: 595-SN74LVC373APWT; ICC @ Nom Voltage(Max)(mA): 0.01; Operating Temperature Range(C): -40 to 85; Code_JEDEC: MO-153; ComponentLink1Description: Manufacturer URL; ComponentLink1URL: http://www.ti.com/; ComponentLink2Description: Datasheet; ComponentLink2URL: http://www.ti.com/lit/ds/symlink/sn74lvc373a.pdf; ComponentLink3Description: Package Specification; ComponentLink3URL: http://www.ti.com/lit/ml/mpds362/mpds362.pdf
footprint PW0020A_N (SOP, 20-Leads, Body 6.6x4.5mm, Pitch 0.65mm, IPC Medium Density)
footprint PW0020A_M (SOP, 20-Leads, Body 6.6x4.5mm, Pitch 0.65mm, IPC Low Density)
footprint PW0020A_L (SOP, 20-Leads, Body 6.6x4.5mm, Pitch 0.65mm, IPC High Density)
pins: 1 ~{OE} (in) "Output Enable", 2 1Q (hiz) "1Q Output", 3 1D (in) "1D Input", 4 2D (in) "2D Input", 5 2Q (hiz) "2Q Output", 6 3Q (hiz) "3Q Output", 7 3D (in) "3D Input", 8 4D (in) "4D Input", 9 4Q (hiz) "4Q Output", 10 GND (power) "Ground Pin", 11 LE (in) "Latch Enable", 12 5Q (hiz) "5Q Output", 13 5D (in) "5D Input", 14 6D (in) "6D Input", 15 6Q (hiz) "6Q Output", 16 7Q (hiz) "7Q Output", 17 7D (in) "7D Input", 18 8D (in) "8D Input", 19 8Q (hiz) "8Q Output", 20 VCC (power) "Power Pin"

## SN74LVC373AQDWREP
designator U?
Enhanced Product Octal Transparent D-Type Latch With 3-State Outputs, DW0020A, LARGE T&R; Generic Part Number: SN74LVC373A-EP; Manufacturer: Texas Instruments; PartNumber: SN74LVC373AQDWREP; VCC(Min)(V): 2; VCC(Max)(V): 3.6; Output Type: CMOS; Logic: True; Static Current: 0.01; Input Type: CMOS,TTL; Bits(#): 8; F @ Nom Voltage(Max)(Mhz): 100; Rating: HiRel Enhanced Product; Technology Family: LVC; Voltage(Nom)(V): 2.7,3.3; Schmitt Trigger: No; Output Drive (IOL/IOH)(Max)(mA): 24/-24; Output Logic: Non-inverted; 3-State Output: Yes; tpd @ Nom Voltage(Max)(ns): 8.5,7.5; DatasheetVersion: SCAS737C; PackageReference: DW0020A; Supplier 1: Digi-Key; Supplier Part Number 1: 296-22365-2-ND; Supplier 2: Digi-Key; Supplier Part Number 2: 296-22365-1-ND; Supplier 3: Digi-Key; Supplier Part Number 3: 296-22365-6-ND; Supplier 4: Mouser; Supplier Part Number 4: 595-N74LVC373AQDWREP; ICC @ Nom Voltage(Max)(mA): 0.01; Operating Temperature Range(C): -40 to 125,-55 to 125; Code_JEDEC: MS-013; ComponentLink1Description: Manufacturer URL; ComponentLink1URL: http://www.ti.com/; ComponentLink2Description: Datasheet; ComponentLink2URL: http://www.ti.com/lit/ds/symlink/sn74lvc373a-ep.pdf; ComponentLink3Description: Package Specification; ComponentLink3URL: http://www.ti.com/lit/ml/mpds173a/mpds173a.pdf
footprint DW0020A_N (SOIC, 20-Leads, Body 13x7.6mm, Pitch 1.27mm, IPC Medium Density)
footprint DW0020A_M (SOIC, 20-Leads, Body 13x7.6mm, Pitch 1.27mm, IPC Low Density)
footprint DW0020A_L (SOIC, 20-Leads, Body 13x7.6mm, Pitch 1.27mm, IPC High Density)
pins: 1 ~{OE} (in) "Output Enable", 2 1Q (hiz) "1Q Output", 3 1D (in) "1D Input", 4 2D (in) "2D Input", 5 2Q (hiz) "2Q Output", 6 3Q (hiz) "3Q Output", 7 3D (in) "3D Input", 8 4D (in) "4D Input", 9 4Q (hiz) "4Q Output", 10 GND (power) "Ground Pin", 11 LE (in) "Latch Enable", 12 5Q (hiz) "5Q Output", 13 5D (in) "5D Input", 14 6D (in) "6D Input", 15 6Q (hiz) "6Q Output", 16 7Q (hiz) "7Q Output", 17 7D (in) "7D Input", 18 8D (in) "8D Input", 19 8Q (hiz) "8Q Output", 20 VCC (power) "Power Pin"

## SN74LVC373AQPWREP
designator U?
Enhanced Product Octal Transparent D-Type Latch With 3-State Outputs, PW0020A, LARGE T&R; Generic Part Number: SN74LVC373A-EP; Manufacturer: Texas Instruments; PartNumber: SN74LVC373AQPWREP; VCC(Min)(V): 2; VCC(Max)(V): 3.6; Output Type: CMOS; Logic: True; Static Current: 0.01; Input Type: CMOS,TTL; Bits(#): 8; F @ Nom Voltage(Max)(Mhz): 100; Rating: HiRel Enhanced Product; Technology Family: LVC; Voltage(Nom)(V): 2.7,3.3; Schmitt Trigger: No; Output Drive (IOL/IOH)(Max)(mA): 24/-24; Output Logic: Non-inverted; 3-State Output: Yes; tpd @ Nom Voltage(Max)(ns): 8.5,7.5; DatasheetVersion: SCAS737C; PackageReference: PW0020A; Supplier 1: Digi-Key; Supplier Part Number 1: 296-22366-2-ND; Supplier 2: Digi-Key; Supplier Part Number 2: 296-22366-1-ND; Supplier 3: Digi-Key; Supplier Part Number 3: 296-22366-6-ND; Supplier 4: Mouser; Supplier Part Number 4: 595-N74LVC373AQPWREP; ICC @ Nom Voltage(Max)(mA): 0.01; Operating Temperature Range(C): -40 to 125,-55 to 125; Code_JEDEC: MO-153; ComponentLink1Description: Manufacturer URL; ComponentLink1URL: http://www.ti.com/; ComponentLink2Description: Datasheet; ComponentLink2URL: http://www.ti.com/lit/ds/symlink/sn74lvc373a-ep.pdf; ComponentLink3Description: Package Specification; ComponentLink3URL: http://www.ti.com/lit/ml/mpds362/mpds362.pdf
footprint PW0020A_N (SOP, 20-Leads, Body 6.6x4.5mm, Pitch 0.65mm, IPC Medium Density)
footprint PW0020A_M (SOP, 20-Leads, Body 6.6x4.5mm, Pitch 0.65mm, IPC Low Density)
footprint PW0020A_L (SOP, 20-Leads, Body 6.6x4.5mm, Pitch 0.65mm, IPC High Density)
pins: 1 ~{OE} (in) "Output Enable", 2 1Q (hiz) "1Q Output", 3 1D (in) "1D Input", 4 2D (in) "2D Input", 5 2Q (hiz) "2Q Output", 6 3Q (hiz) "3Q Output", 7 3D (in) "3D Input", 8 4D (in) "4D Input", 9 4Q (hiz) "4Q Output", 10 GND (power) "Ground Pin", 11 LE (in) "Latch Enable", 12 5Q (hiz) "5Q Output", 13 5D (in) "5D Input", 14 6D (in) "6D Input", 15 6Q (hiz) "6Q Output", 16 7Q (hiz) "7Q Output", 17 7D (in) "7D Input", 18 8D (in) "8D Input", 19 8Q (hiz) "8Q Output", 20 VCC (power) "Power Pin"

## SN74LVC373ARGYR
designator U?
Octal Transparent D-Type Latch With 3-State Outputs, RGY0020A, LARGE T&R; Generic Part Number: SN74LVC373A; Manufacturer: Texas Instruments; PartNumber: SN74LVC373ARGYR; VCC(Min)(V): 2; VCC(Max)(V): 3.6; Output Type: CMOS; Logic: True; Static Current: 0.01; Input Type: CMOS,TTL; Bits(#): 8; F @ Nom Voltage(Max)(Mhz): 100; Rating: Catalog; Technology Family: LVC; Voltage(Nom)(V): 1.8,2.5,2.7,3.3; Schmitt Trigger: No; Output Drive (IOL/IOH)(Max)(mA): 24/-24; Output Logic: Non-inverted; 3-State Output: Yes; tpd @ Nom Voltage(Max)(ns): 19.1,9.6,7.8,6.8; DatasheetVersion: SCAS295T; PackageReference: RGY0020A; Supplier 1: Digi-Key; Supplier Part Number 1: 296-13973-2-ND; Supplier 2: Digi-Key; Supplier Part Number 2: 296-13973-1-ND; Supplier 3: Digi-Key; Supplier Part Number 3: 296-13973-6-ND; Supplier 4: Newark; Supplier Part Number 4: 02E7034; Supplier 5: Mouser; Supplier Part Number 5: 595-SN74LVC373ARGYR; ICC @ Nom Voltage(Max)(mA): 0.01; Operating Temperature Range(C): -40 to 85; Code_JEDEC: MO-241; ComponentLink1Description: Manufacturer URL; ComponentLink1URL: http://www.ti.com/; ComponentLink2Description: Datasheet; ComponentLink2URL: http://www.ti.com/lit/ds/symlink/sn74lvc373a.pdf; ComponentLink3Description: Package Specification; ComponentLink3URL: http://www.ti.com/lit/ml/mpqf116g/mpqf116g.pdf
footprint RGY0020A_V (QFN, 20-Leads, Body 4.5x3.5mm, Thermal Pad 3.05x2.05mm, TI Recommend)
pins: 1 ~{OE} (in) "Output Enable", 2 1Q (hiz) "1Q Output", 3 1D (in) "1D Input", 4 2D (in) "2D Input", 5 2Q (hiz) "2Q Output", 6 3Q (hiz) "3Q Output", 7 3D (in) "3D Input", 8 4D (in) "4D Input", 9 4Q (hiz) "4Q Output", 10 GND (power) "Ground Pin", 11 LE (in) "Latch Enable", 12 5Q (hiz) "5Q Output", 13 5D (in) "5D Input", 14 6D (in) "6D Input", 15 6Q (hiz) "6Q Output", 16 7Q (hiz) "7Q Output", 17 7D (in) "7D Input", 18 8D (in) "8D Input", 19 8Q (hiz) "8Q Output", 20 VCC (power) "Power Pin", 21 EP

## SN74LVC373AZQNR
designator U?
Octal Transparent D-Type Latch With 3-State Outputs, ZQN0020A, LARGE T&R; Generic Part Number: SN74LVC373A; Manufacturer: Texas Instruments; PartNumber: SN74LVC373AZQNR; VCC(Min)(V): 2; VCC(Max)(V): 3.6; Output Type: CMOS; Logic: True; Static Current: 0.01; Input Type: CMOS,TTL; Bits(#): 8; F @ Nom Voltage(Max)(Mhz): 100; Rating: Catalog; Technology Family: LVC; Voltage(Nom)(V): 1.8,2.5,2.7,3.3; Schmitt Trigger: No; Output Drive (IOL/IOH)(Max)(mA): 24/-24; Output Logic: Non-inverted; 3-State Output: Yes; tpd @ Nom Voltage(Max)(ns): 19.1,9.6,7.8,6.8; DatasheetVersion: SCAS295T; PackageReference: ZQN0020A; Supplier 1: Digi-Key; Supplier Part Number 1: 296-27723-2-ND; Supplier 2: Digi-Key; Supplier Part Number 2: 296-27723-1-ND; Supplier 3: Digi-Key; Supplier Part Number 3: 296-27723-6-ND; Supplier 4: Mouser; Supplier Part Number 4: 595-SN74LVC373AZQNR; ICC @ Nom Voltage(Max)(mA): 0.01; Operating Temperature Range(C): -40 to 85; Code_JEDEC: MO-285; ComponentLink1Description: Manufacturer URL; ComponentLink1URL: http://www.ti.com/; ComponentLink2Description: Datasheet; ComponentLink2URL: http://www.ti.com/lit/ds/symlink/sn74lvc373a.pdf; ComponentLink3Description: Package Specification; ComponentLink3URL: http://www.ti.com/lit/ml/mpbg297b/mpbg297b.pdf
footprint ZQN0020A (BGA, 20-Balls, Body 4x3mm, Pitch 0.65mm)
pins: A1 1Q (hiz) "Output 1", A2 ~{OE} (in) "Enable Pin", A3 VCC (power) "Power Pin", A4 8Q (hiz) "Output 8", B1 2D (in) "Input 2", B2 7D (in) "Input 7", B3 1D (in) "Input 1", B4 8D (in) "Input 8", C1 3Q (hiz) "Output 3", C2 2Q (hiz) "Output 2", C3 6Q (hiz) "Output 6", C4 7Q (hiz) "Output 7", D1 4D (in) "Input 4", D2 5D (in) "Input 5", D3 3D (in) "Input 3", D4 6D (in) "Input 6", E1 GND (power) "Ground Pin", E2 4Q (hiz) "Output 4", E3 LE (in) "Latch Enable", E4 5Q (hiz) "Output 5"

## SN74LVC374ADBR
designator U?
Octal Edge-Triggered D-Type Flip-Flops With 3-State Outputs, DB0020A, LARGE T&R; Generic Part Number: SN74LVC374A; Manufacturer: Texas Instruments; PartNumber: SN74LVC374ADBR; VCC(Min)(V): 1.65; VCC(Max)(V): 3.6; Output Type: CMOS; ICC @ Nom Voltage(Max)(mA): 0.01; Input Type: TTL,CMOS; Bits(#): 8; F @ Nom Voltage(Max)(Mhz): 100; Rating: Catalog; Technology Family: LVC; Voltage(Nom)(V): 1.8,2.5,2.7,3.3; Schmitt Trigger: No; Output Drive (IOL/IOH)(Max)(mA): 24/-24; Output Logic: Non-inverted; 3-State Output: Yes; tpd @ Nom Voltage(Max)(ns): 21.9,10.8,8.1,7; DatasheetVersion: SCAS296O; PackageReference: DB0020A; Supplier 1: Digi-Key; Supplier Part Number 1: 296-8513-2-ND; Supplier 2: Digi-Key; Supplier Part Number 2: 296-8513-1-ND; Supplier 3: Digi-Key; Supplier Part Number 3: 296-8513-6-ND; Supplier 4: Newark; Supplier Part Number 4: 76C4282; Supplier 5: Mouser; Supplier Part Number 5: 595-SN74LVC374ADBR; Operating Temperature Range(C): -40 to 85; Code_JEDEC: MO-150; ComponentLink1Description: Manufacturer URL; ComponentLink1URL: http://www.ti.com/; ComponentLink2Description: Datasheet; ComponentLink2URL: http://www.ti.com/lit/ds/symlink/sn74lvc374a.pdf; ComponentLink3Description: Package Specification; ComponentLink3URL: http://www.ti.com/lit/ml/mpds508/mpds508.pdf
footprint DB0020A_N (SOP, 20-Leads, Body 5.6x7.5mm, Pitch 0.65mm, IPC Medium Density)
footprint DB0020A_M (SOP, 20-Leads, Body 5.6x7.5mm, Pitch 0.65mm, IPC Low Density)
footprint DB0020A_L (SOP, 20-Leads, Body 5.6x7.5mm, Pitch 0.65mm, IPC High Density)
part A pins: 1 OE (in), 2 1Q (hiz), 3 1D (in), 4 2D (in), 5 2Q (hiz), 6 3Q (hiz), 7 3D (in), 8 4D (in), 9 4Q (hiz), 11 CLK (in), 12 5Q (hiz), 13 5D (in), 14 6D (in), 15 6Q (hiz), 16 7Q (hiz), 17 7D (in), 18 8D (in), 19 8Q (hiz)
part B pins: 10 GND (power), 20 VCC (power)

## SN74LVC374ADGVR
designator U?
Octal Edge-Triggered D-Type Flip-Flops With 3-State Outputs, DGV0020A, LARGE T&R; Generic Part Number: SN74LVC374A; Manufacturer: Texas Instruments; PartNumber: SN74LVC374ADGVR; VCC(Min)(V): 1.65; VCC(Max)(V): 3.6; Output Type: CMOS; ICC @ Nom Voltage(Max)(mA): 0.01; Input Type: TTL,CMOS; Bits(#): 8; F @ Nom Voltage(Max)(Mhz): 100; Rating: Catalog; Technology Family: LVC; Voltage(Nom)(V): 1.8,2.5,2.7,3.3; Schmitt Trigger: No; Output Drive (IOL/IOH)(Max)(mA): 24/-24; Output Logic: Non-inverted; 3-State Output: Yes; tpd @ Nom Voltage(Max)(ns): 21.9,10.8,8.1,7; DatasheetVersion: SCAS296O; PackageReference: DGV0020A; Supplier 1: Digi-Key; Supplier Part Number 1: 296-12906-2-ND; Supplier 2: Digi-Key; Supplier Part Number 2: 296-12906-1-ND; Supplier 3: Digi-Key; Supplier Part Number 3: 296-12906-6-ND; Operating Temperature Range(C): -40 to 85; Code_JEDEC: MO-194; ComponentLink1Description: Manufacturer URL; ComponentLink1URL: http://www.ti.com/; ComponentLink2Description: Datasheet; ComponentLink2URL: http://www.ti.com/lit/ds/symlink/sn74lvc374a.pdf; ComponentLink3Description: Package Specification; ComponentLink3URL: http://www.ti.com/lit/ml/mpds006c/mpds006c.pdf
footprint DGV0020A_N (SOP, 20-Leads, Body 4.5x5.1mm, Pitch 0.4mm, IPC Medium Density)
footprint DGV0020A_M (SOP, 20-Leads, Body 4.5x5.1mm, Pitch 0.4mm, IPC Low Density)
footprint DGV0020A_L (SOP, 20-Leads, Body 4.5x5.1mm, Pitch 0.4mm, IPC High Density)
part A pins: 1 OE (in), 2 1Q (hiz), 3 1D (in), 4 2D (in), 5 2Q (hiz), 6 3Q (hiz), 7 3D (in), 8 4D (in), 9 4Q (hiz), 11 CLK (in), 12 5Q (hiz), 13 5D (in), 14 6D (in), 15 6Q (hiz), 16 7Q (hiz), 17 7D (in), 18 8D (in), 19 8Q (hiz)
part B pins: 10 GND (power), 20 VCC (power)

## SN74LVC374ADW
designator U?
Octal Edge-Triggered D-Type Flip-Flops With 3-State Outputs, DW0020A, TUBE; Generic Part Number: SN74LVC374A; Manufacturer: Texas Instruments; PartNumber: SN74LVC374ADW; VCC(Min)(V): 1.65; VCC(Max)(V): 3.6; Output Type: CMOS; ICC @ Nom Voltage(Max)(mA): 0.01; Input Type: TTL,CMOS; Bits(#): 8; F @ Nom Voltage(Max)(Mhz): 100; Rating: Catalog; Technology Family: LVC; Voltage(Nom)(V): 1.8,2.5,2.7,3.3; Schmitt Trigger: No; Output Drive (IOL/IOH)(Max)(mA): 24/-24; Output Logic: Non-inverted; 3-State Output: Yes; tpd @ Nom Voltage(Max)(ns): 21.9,10.8,8.1,7; DatasheetVersion: SCAS296O; PackageReference: DW0020A; Supplier 1: Digi-Key; Supplier Part Number 1: 296-1701-5-ND; Supplier 2: Newark; Supplier Part Number 2: 67K2863; Supplier 3: Mouser; Supplier Part Number 3: 595-SN74LVC374ADW; Operating Temperature Range(C): -40 to 85; Code_JEDEC: MS-013; ComponentLink1Description: Manufacturer URL; ComponentLink1URL: http://www.ti.com/; ComponentLink2Description: Datasheet; ComponentLink2URL: http://www.ti.com/lit/ds/symlink/sn74lvc374a.pdf; ComponentLink3Description: Package Specification; ComponentLink3URL: http://www.ti.com/lit/ml/mpds173a/mpds173a.pdf
footprint DW0020A_N (SOIC, 20-Leads, Body 13x7.6mm, Pitch 1.27mm, IPC Medium Density)
footprint DW0020A_M (SOIC, 20-Leads, Body 13x7.6mm, Pitch 1.27mm, IPC Low Density)
footprint DW0020A_L (SOIC, 20-Leads, Body 13x7.6mm, Pitch 1.27mm, IPC High Density)
part A pins: 1 OE (in), 2 1Q (hiz), 3 1D (in), 4 2D (in), 5 2Q (hiz), 6 3Q (hiz), 7 3D (in), 8 4D (in), 9 4Q (hiz), 11 CLK (in), 12 5Q (hiz), 13 5D (in), 14 6D (in), 15 6Q (hiz), 16 7Q (hiz), 17 7D (in), 18 8D (in), 19 8Q (hiz)
part B pins: 10 GND (power), 20 VCC (power)

## SN74LVC374ADWR
designator U?
Octal Edge-Triggered D-Type Flip-Flops With 3-State Outputs, DW0020A, LARGE T&R; Generic Part Number: SN74LVC374A; Manufacturer: Texas Instruments; PartNumber: SN74LVC374ADWR; VCC(Min)(V): 1.65; VCC(Max)(V): 3.6; Output Type: CMOS; ICC @ Nom Voltage(Max)(mA): 0.01; Input Type: TTL,CMOS; Bits(#): 8; F @ Nom Voltage(Max)(Mhz): 100; Rating: Catalog; Technology Family: LVC; Voltage(Nom)(V): 1.8,2.5,2.7,3.3; Schmitt Trigger: No; Output Drive (IOL/IOH)(Max)(mA): 24/-24; Output Logic: Non-inverted; 3-State Output: Yes; tpd @ Nom Voltage(Max)(ns): 21.9,10.8,8.1,7; DatasheetVersion: SCAS296O; PackageReference: DW0020A; Supplier 1: Digi-Key; Supplier Part Number 1: 296-1701-2-ND; Supplier 2: Digi-Key; Supplier Part Number 2: 296-1701-1-ND; Supplier 3: Digi-Key; Supplier Part Number 3: 296-1701-6-ND; Supplier 4: Newark; Supplier Part Number 4: 76C4285; Supplier 5: Mouser; Supplier Part Number 5: 595-SN74LVC374ADWR; Operating Temperature Range(C): -40 to 85; Code_JEDEC: MS-013; ComponentLink1Description: Manufacturer URL; ComponentLink1URL: http://www.ti.com/; ComponentLink2Description: Datasheet; ComponentLink2URL: http://www.ti.com/lit/ds/symlink/sn74lvc374a.pdf; ComponentLink3Description: Package Specification; ComponentLink3URL: http://www.ti.com/lit/ml/mpds173a/mpds173a.pdf
footprint DW0020A_N (SOIC, 20-Leads, Body 13x7.6mm, Pitch 1.27mm, IPC Medium Density)
footprint DW0020A_M (SOIC, 20-Leads, Body 13x7.6mm, Pitch 1.27mm, IPC Low Density)
footprint DW0020A_L (SOIC, 20-Leads, Body 13x7.6mm, Pitch 1.27mm, IPC High Density)
part A pins: 1 OE (in), 2 1Q (hiz), 3 1D (in), 4 2D (in), 5 2Q (hiz), 6 3Q (hiz), 7 3D (in), 8 4D (in), 9 4Q (hiz), 11 CLK (in), 12 5Q (hiz), 13 5D (in), 14 6D (in), 15 6Q (hiz), 16 7Q (hiz), 17 7D (in), 18 8D (in), 19 8Q (hiz)
part B pins: 10 GND (power), 20 VCC (power)

## SN74LVC374AN
designator U?
Octal Edge-Triggered D-Type Flip-Flops With 3-State Outputs, N0020A, TUBE; Generic Part Number: SN74LVC374A; Manufacturer: Texas Instruments; PartNumber: SN74LVC374AN; VCC(Min)(V): 1.65; VCC(Max)(V): 3.6; Output Type: CMOS; ICC @ Nom Voltage(Max)(mA): 0.01; Input Type: TTL,CMOS; Bits(#): 8; F @ Nom Voltage(Max)(Mhz): 100; Rating: Catalog; Technology Family: LVC; Voltage(Nom)(V): 1.8,2.5,2.7,3.3; Schmitt Trigger: No; Output Drive (IOL/IOH)(Max)(mA): 24/-24; Output Logic: Non-inverted; 3-State Output: Yes; tpd @ Nom Voltage(Max)(ns): 21.9,10.8,8.1,7; DatasheetVersion: SCAS296O; PackageReference: N0020A; Supplier 1: Digi-Key; Supplier Part Number 1: 296-12907-5-ND; Supplier 2: Farnell; Supplier Part Number 2: 1750047; Supplier 3: Mouser; Supplier Part Number 3: 595-SN74LVC374AN; Operating Temperature Range(C): -40 to 85; Code_JEDEC: MS-001; ComponentLink1Description: Manufacturer URL; ComponentLink1URL: http://www.ti.com/; ComponentLink2Description: Datasheet; ComponentLink2URL: http://www.ti.com/lit/ds/symlink/sn74lvc374a.pdf; ComponentLink3Description: Package Specification; ComponentLink3URL: http://www.ti.com/lit/ml/mpdi002c/mpdi002c.pdf
footprint N0020A (DIP, 20-Leads, Body 26.9x6.6mm, Pitch 2.54mm)
part A pins: 1 OE (in), 2 1Q (hiz), 3 1D (in), 4 2D (in), 5 2Q (hiz), 6 3Q (hiz), 7 3D (in), 8 4D (in), 9 4Q (hiz), 11 CLK (in), 12 5Q (hiz), 13 5D (in), 14 6D (in), 15 6Q (hiz), 16 7Q (hiz), 17 7D (in), 18 8D (in), 19 8Q (hiz)
part B pins: 10 GND (power), 20 VCC (power)